# EAGLE library part TB0918106_6POL (library 1A-meinLib)
Schneidklemmverbinder für PCB, 6-pol, SEK18 Typ TB0918106 9622, Harting. Bürklin 53F3460
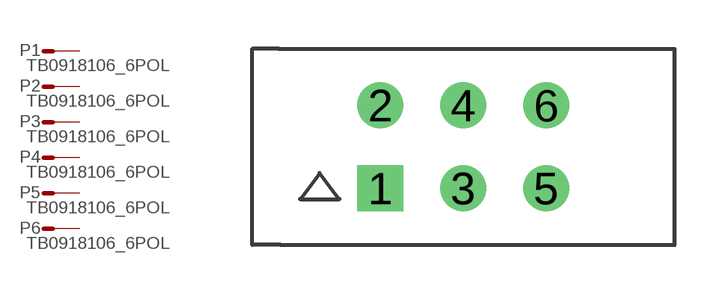
[diagram p188: symbol with the pads of TB0918106_6POL; footprint TB0918106_6POL]

Designator prefix P; gates 1=M-1 2=M-1 3=M-1 4=M-1 5=M-1 6=M-1

## TB0918106_6POL  [TB0918106_6POL]
1  1:S  pas
2  2:S  pas
3  3:S  pas
4  4:S  pas
5  5:S  pas
6  6:S  pas

## Footprint TB0918106_6POL (pad centres in mm)
drill 0.9 square: 1 -2.54,-1.27
drill 0.9 round: 2 -2.54,1.27; 3 0,-1.27; 4 0,1.27; 5 2.54,-1.27; 6 2.54,1.27